# Altium footprint library Ethernet_ICs.PcbLib: 3 footprints
Each footprint in its own frame and in the unit in brackets; x right, y up, seen from the top. Pads: shape width x height; smd on the part's side, far side on the other; paste and mask are expansions set on the pad; w line width, h text height; cw(c..) or ccw(c..) is an arc to the next point about the centre after c.
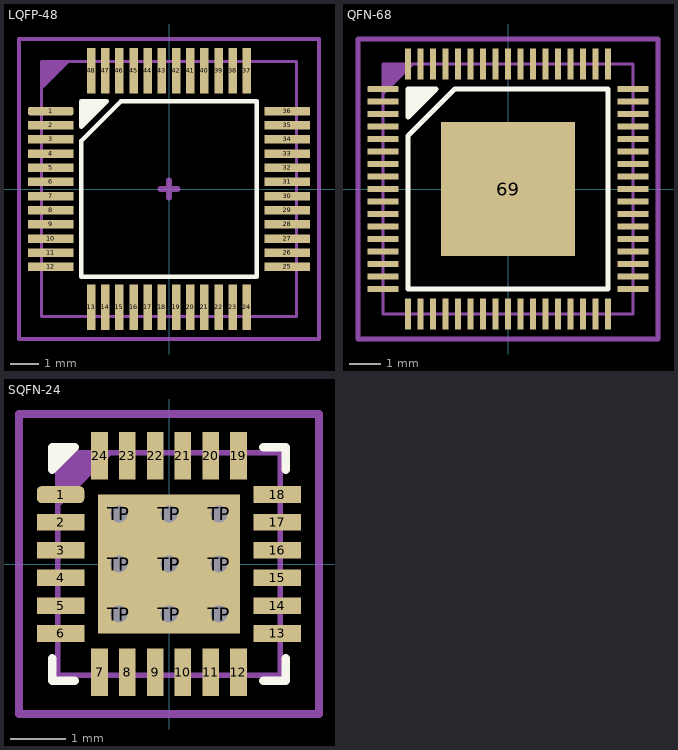
[diagram p0: the footprints below, top view; thin cyan lines are the x and y axes]

## LQFP-48 [mm]
pads (48):
  rrect50% 1.6x0.3 smd: 1(-4.18,2.75)
  rect 1.6x0.3 smd: 2(-4.18,2.25) 3(-4.18,1.75) 4(-4.18,1.25) 5(-4.18,0.75) 6(-4.18,0.25) 7(-4.18,-0.25) 8(-4.18,-0.75) 9(-4.18,-1.25) 10(-4.18,-1.75) 11(-4.18,-2.25) 12(-4.18,-2.75) 25(4.18,-2.75) 26(4.18,-2.25) 27(4.18,-1.75) 28(4.18,-1.25) 29(4.18,-0.75) 30(4.18,-0.25) 31(4.18,0.25) 32(4.18,0.75) 33(4.18,1.25) 34(4.18,1.75) 35(4.18,2.25) 36(4.18,2.75)
  rect 0.3x1.6 smd: 13(-2.75,-4.18) 14(-2.25,-4.18) 15(-1.75,-4.18) 16(-1.25,-4.18) 17(-0.75,-4.18) 18(-0.25,-4.18) 19(0.25,-4.18) 20(0.75,-4.18) 21(1.25,-4.18) 22(1.75,-4.18) 23(2.25,-4.18) 24(2.75,-4.18) 37(2.75,4.18) 38(2.25,4.18) 39(1.75,4.18) 40(1.25,4.18) 41(0.75,4.18) 42(0.25,4.18) 43(-0.25,4.18) 44(-0.75,4.18) 45(-1.25,4.18) 46(-1.75,4.18) 47(-2.25,4.18) 48(-2.75,4.18)
Top Overlay:
  region: -3.1,3.1 -2.2,3.1 -3.1,2.2
  lines w0.153: -3.1,-3.1 -3.1,1.7 -1.7,3.1 3.1,3.1 3.1,-3.1 -3.1,-3.1 ; -3.1,2.2 -2.2,3.1 -3.1,3.1 -3.1,2.2
Top Assembly:
  region: -4.5,4.5 -4.5,3.5 -3.5,4.5
  lines w0.1: -4.5,-4.5 4.5,-4.5 4.5,4.5 -4.5,4.5 -4.5,-4.5
  text "'.Designator'" at -4.532,-0.333 h0.8
Top Courtyard:
  lines w0.153: -5.3,-5.3 5.3,-5.3 5.3,5.3 -5.3,5.3 -5.3,-5.3
  lines w0.2: -0.3,0 0.3,0 ; 0,-0.3 0,0.3
3D body "W5500--3DModel-STEP-56544.STEP": height 1.6, standoff 0, extent -4.5,-4.5 4.5,4.5

## QFN-68 [mm]
pads (69):
  rrect50% 1x0.2 smd: 1(-4,3.2)
  rect 1x0.2 smd: 2(-4,2.8) 3(-4,2.4) 4(-4,2) 5(-4,1.6) 6(-4,1.2) 7(-4,0.8) 8(-4,0.4) 9(-4,0) 10(-4,-0.4) 11(-4,-0.8) 12(-4,-1.2) 13(-4,-1.6) 14(-4,-2) 15(-4,-2.4) 16(-4,-2.8) 17(-4,-3.2) 35(4,-3.2) 36(4,-2.8) 37(4,-2.4) 38(4,-2) 39(4,-1.6) 40(4,-1.2) 41(4,-0.8) 42(4,-0.4) 43(4,0) 44(4,0.4) 45(4,0.8) 46(4,1.2) 47(4,1.6) 48(4,2) 49(4,2.4) 50(4,2.8) 51(4,3.2)
  rect 0.2x1 smd: 18(-3.2,-4) 19(-2.8,-4) 20(-2.4,-4) 21(-2,-4) 22(-1.6,-4) 23(-1.2,-4) 24(-0.8,-4) 25(-0.4,-4) 26(0,-4) 27(0.4,-4) 28(0.8,-4) 29(1.2,-4) 30(1.6,-4) 31(2,-4) 32(2.4,-4) 33(2.8,-4) 34(3.2,-4) 52(3.2,4) 53(2.8,4) 54(2.4,4) 55(2,4) 56(1.6,4) 57(1.2,4) 58(0.8,4) 59(0.4,4) 60(0,4) 61(-0.4,4) 62(-0.8,4) 63(-1.2,4) 64(-1.6,4) 65(-2,4) 66(-2.4,4) 67(-2.8,4) 68(-3.2,4)
  rect 4.3x4.3 smd: 69(0,0)
Top Overlay:
  region: -3.2,3.2 -2.3,3.2 -3.2,2.3
  lines w0.153: -3.2,-3.2 3.2,-3.2 3.2,3.2 -1.7,3.2 -3.2,1.7 -3.2,-3.2 ; -3.2,2.3 -2.3,3.2 -3.2,3.2 -3.2,2.3
Top Assembly:
  region: -4,4 -4,3 -3,4
  lines w0.1: -4,-4 4,-4 4,4 -4,4 -4,-4
  text "'.Designator'" at -4.532,-0.333 h0.8
Top Courtyard:
  lines w0.153: -4.8,-4.8 4.8,-4.8 4.8,4.8 -4.8,4.8 -4.8,-4.8
  lines w0.2: -0.3,0 0.3,0 ; 0,-0.3 0,0.3
3D body "User Library-QFN68(8x8mm).step": height 0.85, standoff 0, extent -4.02,-4.02 4.02,4.02

## SQFN-24 [mm]
pads (34):
  rrect50% 0.85x0.3 smd: 1(-1.95,1.25)
  rect 0.85x0.3 smd: 2(-1.95,0.75) 3(-1.95,0.25) 4(-1.95,-0.25) 5(-1.95,-0.75) 6(-1.95,-1.25) 13(1.95,-1.25) 14(1.95,-0.75) 15(1.95,-0.25) 16(1.95,0.25) 17(1.95,0.75) 18(1.95,1.25)
  rect 0.3x0.85 smd: 7(-1.25,-1.95) 8(-0.75,-1.95) 9(-0.25,-1.95) 10(0.25,-1.95) 11(0.75,-1.95) 12(1.25,-1.95) 19(1.25,1.95) 20(0.75,1.95) 21(0.25,1.95) 22(-0.25,1.95) 23(-0.75,1.95) 24(-1.25,1.95)
  round 0.65 hole 0.3 mask+0.102: TP(-0.9,-0.9) TP(-0.9,0) TP(-0.9,0.9) TP(0,-0.9) TP(0,0) TP(0,0.9) TP(0.9,-0.9) TP(0.9,0) TP(0.9,0.9)
  rect 2.55x2.5 smd: TP(0,0)
Top Overlay:
  region: -2.1,2.1 -2.1,1.7 -1.7,2.1
  lines w0.153: -2.1,-1.7 -2.1,-2.1 -1.7,-2.1 ; 1.7,-2.1 2.1,-2.1 2.1,-1.7 ; 1.7,2.1 2.1,2.1 2.1,1.7 ; -2.1,1.7 -1.7,2.1 -2.1,2.1 -2.1,1.7
Top Assembly:
  region: -2,2 -2,1 -1,2
  lines w0.1: -2,-2 -2,2 2,2 2,-2 -2,-2
  text "'.Designator'" at -4.532,-0.333 h0.8
Top Courtyard:
  lines w0.153: -2.7,-2.7 -2.7,2.7 2.7,2.7 2.7,-2.7 -2.7,-2.7
  lines w0.2: -0.3,0 0.3,0 ; 0,-0.3 0,0.3
3D body "User Library-VQFN-24.step": height 1.05, standoff -0.02, extent -2.049,-2.05 2.051,2.05